# Altium schematic symbol library Conn,Pwr Ent,Rcpt,IEC320,Male,Pnl Mnt.Schlib: 1 symbol
Pins are listed as number, name and electrical type; pins without a type are passive.

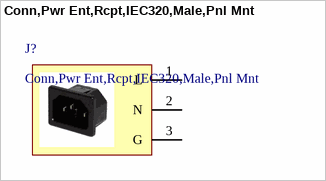
[diagram p0: symbol Conn,Pwr Ent,Rcpt,IEC320,Male,Pnl Mnt]

## Conn,Pwr Ent,Rcpt,IEC320,Male,Pnl Mnt
designator J?
Power Entry Connector Receptacle, Male Blades IEC 320-C14 Panel Mount, Snap-In
pins: 1 L, 2 N, 3 G